# Altium footprint library SMD-RCD 0607.PcbLib: 104 footprints (part 6 of 7)
Each footprint in its own frame and in the unit in brackets; x right, y up, seen from the top. Pads: shape width x height; smd on the part's side, far side on the other; paste and mask are expansions set on the pad; w line width, h text height; cw(c..) or ccw(c..) is an arc to the next point about the centre after c.
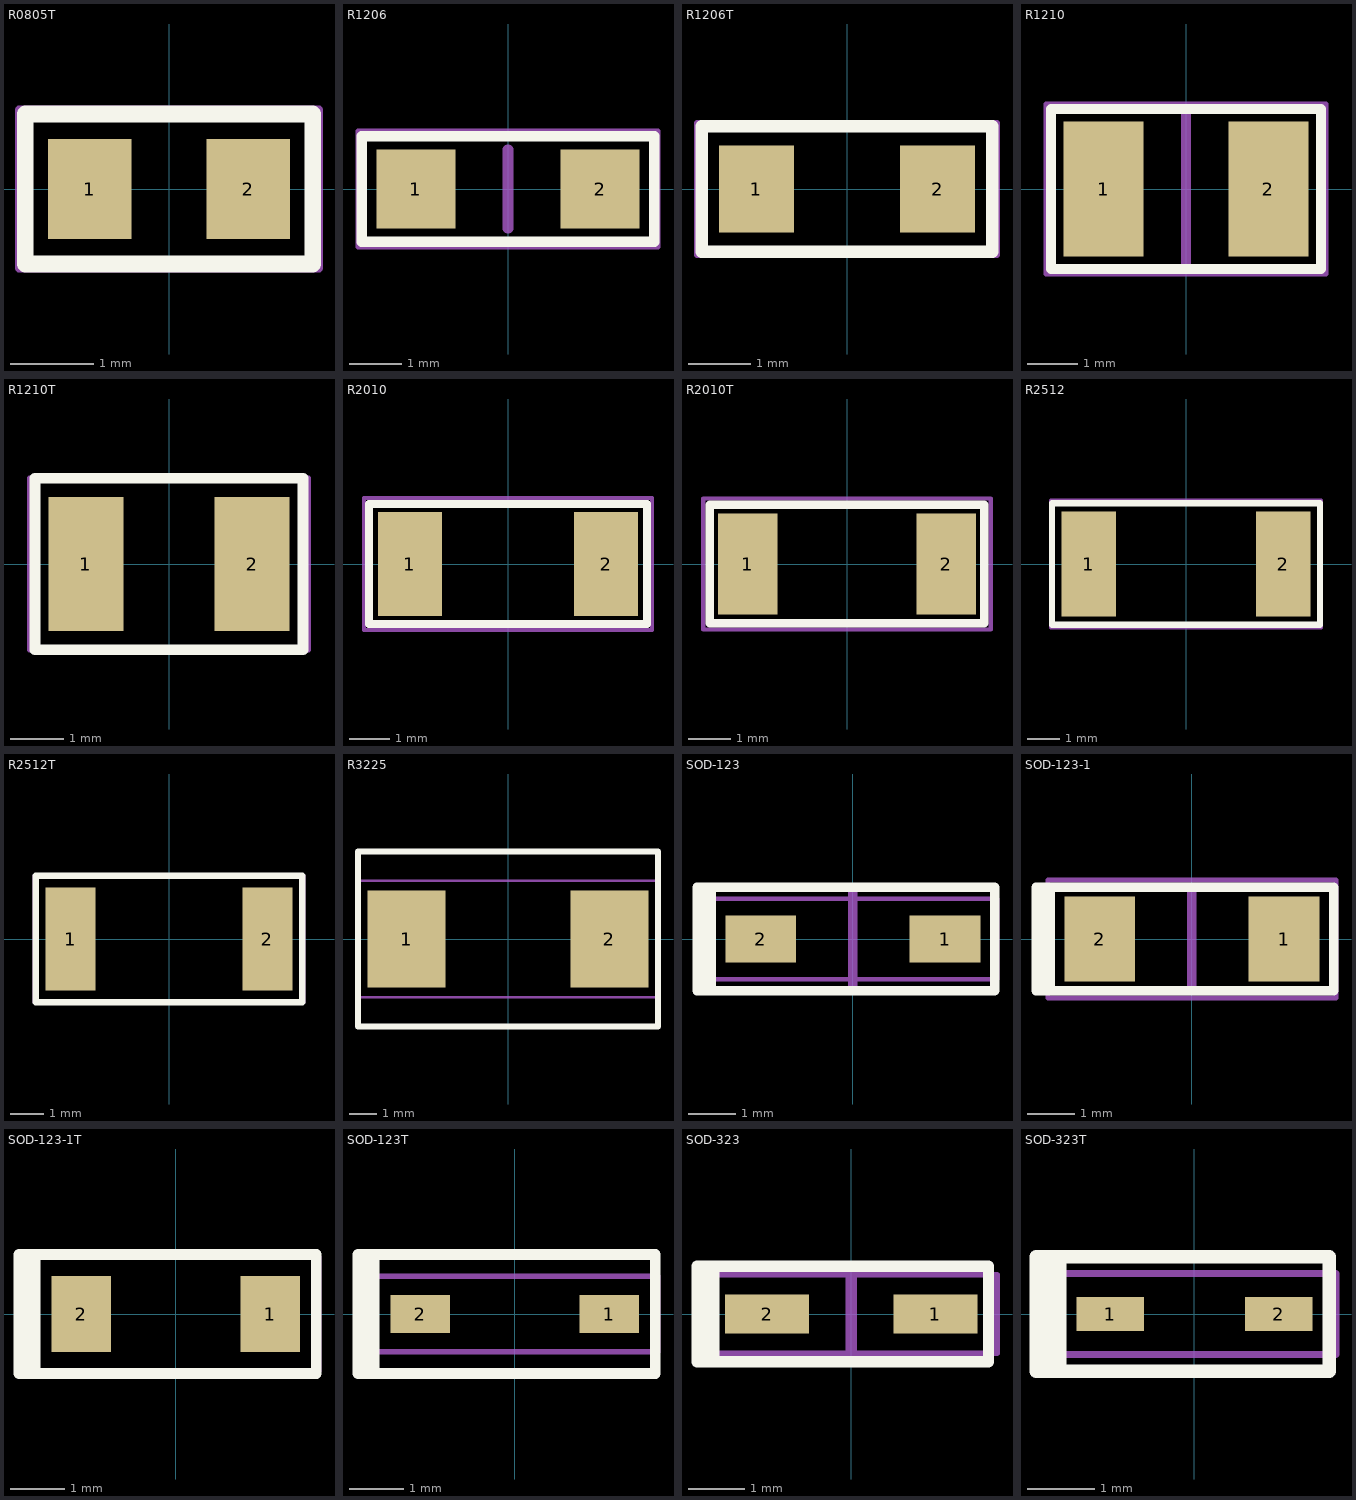
[diagram p5: the footprints below, top view; thin cyan lines are the x and y axes]

## R0805T [mm]
height 0.45
pads (2):
  rect 1x1.2 smd: 1(-0.95,0) 2(0.95,0)
Top Overlay:
  lines w0.2: -1.725,-0.9 1.725,-0.9 1.725,0.9 -1.725,0.9 -1.725,-0.9
Mechanical 15:
  lines w0.1: -1.8,-0.95 1.8,-0.95 1.8,0.95 -1.8,0.95 -1.8,-0.95

## R1206 [mm]
height 0.55
pads (2):
  rect 1.5x1.5 smd: 1(-1.75,0) 2(1.75,0)
Top Overlay:
  lines w0.2: -2.775,-1 -2.775,1 2.775,1 2.775,-1 -2.775,-1
Mechanical 9:
  lines w0.2: 0,-0.75 0,0.75
Mechanical 16:
  lines w0.1: -2.85,-1.1 2.85,-1.1 2.85,1.1 -2.85,1.1 -2.85,-1.1

## R1206T [mm]
height 0.55
pads (2):
  rect 1.2x1.4 smd: 1(-1.45,0) 2(1.45,0)
Top Overlay:
  lines w0.2: -2.325,-1 -2.325,1 2.325,1 2.325,-1 -2.325,-1
Mechanical 15:
  lines w0.1: -2.4,-1.05 -2.4,1.05 2.4,1.05 2.4,-1.05 -2.4,-1.05

## R1210 [mm]
height 0.55
pads (2):
  rect 1.6x2.7 smd: 1(-1.65,0) 2(1.65,0)
Top Overlay:
  lines w0.2: -2.7,-1.6 -2.7,1.6 2.7,1.6 2.7,-1.6 -2.7,-1.6
Mechanical 9:
  lines w0.2: 0,-1.5 0,1.5
Mechanical 16:
  lines w0.1: -2.8,-1.7 2.8,-1.7 2.8,1.7 -2.8,1.7 -2.8,-1.7

## R1210T [mm]
height 0.55
pads (2):
  rect 1.4x2.5 smd: 1(-1.55,0) 2(1.55,0)
Top Overlay:
  lines w0.2: -2.5,-1.6 2.5,-1.6 2.5,1.6 -2.5,1.6 -2.5,-1.6
Mechanical 15:
  lines w0.1: -2.6,-1.6 2.6,-1.6 2.6,1.6 -2.6,1.6 -2.6,-1.6

## R2010 [mm]
height 2.61
pads (2):
  rect 1.6x2.6 smd: 1(-2.45,0) 2(2.45,0)
Top Overlay:
  lines w0.2: -3.475,-1.5 -3.475,1.5 3.475,1.5 3.475,-1.5 -3.475,-1.5
Mechanical 16:
  lines w0.1: -3.6,-1.65 -3.6,1.65 3.6,1.65 3.6,-1.65 -3.6,-1.65

## R2010T [mm]
height 2.61
pads (2):
  rect 1.4x2.4 smd: 1(-2.35,0) 2(2.35,0)
Top Overlay:
  lines w0.2: -3.25,-1.4 -3.25,1.4 3.25,1.4 3.25,-1.4 -3.25,-1.4
Mechanical 15:
  lines w0.1: -3.4,-1.55 3.4,-1.55 3.4,1.5 ; -3.4,-1.5 -3.4,1.55 3.4,1.55

## R2512 [mm]
height 0.6
pads (2):
  rect 1.7x3.3 smd: 1(-3.05,0) 2(3.05,0)
Top Overlay:
  lines w0.2: -4.2,-1.9 -4.2,1.9 4.2,1.9 4.2,-1.9 -4.2,-1.9
Mechanical 16:
  lines w0.1: -4.25,-2 4.25,-2 4.25,2 -4.25,2 -4.25,-2

## R2512T [mm]
pads (2):
  rect 1.5x3.1 smd: 1(-2.95,0) 2(2.95,0)
Top Overlay:
  lines w0.2: -4,-1.9 4,-1.9 4,1.9 -4,1.9 -4,-1.9
Mechanical 15:
  lines w0.1: -4.05,-1.9 -4.05,1.9 4.05,1.9 4.05,-1.9 -4.05,-1.9

## R3225 [mm]
height 3.3
pads (2):
  rect 2.8x3.5 smd: 1(-3.65,0) 2(3.65,0)
Top Overlay:
  lines w0.2: -5.4,-3.15 5.4,-3.15 5.4,3.15 -5.4,3.15 -5.4,-3.15
Mechanical 16:
  lines w0.1: -5.4,-2.1 5.4,-2.1 5.4,2.1 -5.4,2.1 -5.4,-2.1

## SOD-123 [mm] "MiniMELF"
height 1.35
pads (2):
  rect 1.5x1 smd: 1(1.95,0) 2(-1.95,0)
Top Overlay:
  lines w0.2: -3,-1.1 -3.3,-1.1 -3.3,1.1 -3,1.1 ; -3,-1.1 -3,1.1 ; -3,-1.1 3,-1.1 3,1.1 -3,1.1
  lines w0.3: -3.175,-1.025 -3.175,1
Mechanical 9:
  lines w0.2: 0,-1 0,1
Mechanical 16:
  lines w0.1: -3.05,-0.85 3.05,-0.85 3.05,0.85 -3.05,0.85 -3.05,-0.85

## SOD-123-1 [mm]
height 1.6
pads (2):
  rect 1.5x1.8 smd: 1(1.95,0) 2(-1.95,0)
Top Overlay:
  lines w0.2: -3,-1.1 3,-1.1 3,1.1 -3,1.1 ; -3,-1.1 -3,1.1 ; -3,-1.1 -3.3,-1.1 -3.3,1.1 -3,1.1
  lines w0.3: -3.175,-1.025 -3.175,1
Mechanical 9:
  lines w0.2: 0,-1 0,1
Mechanical 16:
  lines w0.1: -3.05,-1.25 -3.05,1.25 3.05,1.25 3.05,-1.25 -3.05,-1.25

## SOD-123-1T [mm]
height 1.6
pads (2):
  rect 1.1x1.4 smd: 1(1.75,0) 2(-1.75,0)
Top Overlay:
  lines w0.2: -2.9,-1.1 -2.6,-1.1 -2.6,1.1 -2.9,1.1 ; -2.9,-1.1 -2.9,1.1 ; -2.9,-1.1 2.6,-1.1 2.6,1.1 -2.9,1.1
  lines w0.3: -2.775,-1.025 -2.775,1
Mechanical 15:
  lines w0.1: -2.65,-1.05 -2.65,1.05 2.65,1.05 2.65,-1.05 -2.65,-1.05

## SOD-123T [mm] "MiniMELF"
height 1.35
pads (2):
  rect 1.1x0.7 smd: 1(1.75,0) 2(-1.75,0)
Top Overlay:
  lines w0.2: -2.9,-1.1 -2.6,-1.1 -2.6,1.1 -2.9,1.1 ; -2.9,-1.1 -2.9,1.1 ; -2.9,-1.1 2.6,-1.1 2.6,1.1 -2.9,1.1
  lines w0.3: -2.775,-1.025 -2.775,1
Mechanical 15:
  lines w0.1: -2.65,-0.7 -2.65,0.7 2.65,0.7 2.65,-0.7 -2.65,-0.7

## SOD-323 [mm] "TURP-FM"
height 1.35
pads (2):
  rect 1.5x0.7 smd: 1(1.5,0) 2(-1.5,0)
Top Overlay:
  lines w0.2: -2.55,-0.8 -2.55,0.825 ; -2.75,-0.85 -2.75,0.85 2.45,0.85 2.45,-0.85 -2.75,-0.85 ; -2.65,-0.85 -2.65,0.85 -2.45,0.85 -2.45,-0.85 -2.65,-0.85
Mechanical 9:
  lines w0.2: 0,-0.75 0,0.75
Mechanical 16:
  lines w0.1: -2.6,-0.7 2.6,-0.7 2.6,0.7 -2.6,0.7 -2.6,-0.7

## SOD-323T [mm] "TURP-FM"
height 1.35
pads (2):
  rect 1x0.5 smd: 1(-1.25,0) 2(1.25,0)
Top Overlay:
  lines w0.2: -2.25,-0.85 -2.25,0.85 ; -2.1,-0.8 -2.1,0.8 ; -2,-0.85 -2,0.85 ; -2.35,-0.85 2,-0.85 2,0.85 -2.35,0.85 -2.35,-0.85
Mechanical 15:
  lines w0.1: -2.1,-0.6 -2.1,0.6 2.1,0.6 2.1,-0.6 -2.1,-0.6